# EAGLE library part DEBUG-CORTEXM10 (library Cynara-Connectors)
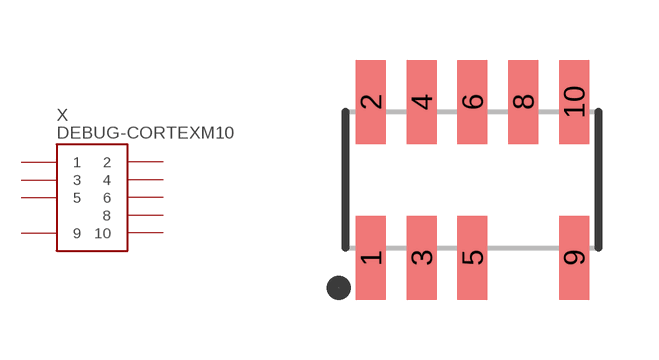
[diagram p0: symbol with the pads of DEBUG-CORTEXM10; footprint DEBUG-CORTEXM10]

Designator prefix X

## DEBUG-CORTEXM10 (MANUFACTURER: SAMTEC; MANUFACTURERPARTNO: 62101021021; VALUE: debug 10p)  [DEBUG-CORTEXM10]
1  1  pas
2  2  pas
3  3  pas
4  4  pas
5  5  pas
6  6  pas
8  8  pas
9  9  pas
10  10  pas

## Footprint DEBUG-CORTEXM10 (pad centres in mm)
WR-PHD 1.27mm Dual SMT Pin Header H=3.80 mm, 10 Pins
smd 0.75 x 2.1: 1 -1.905,-1.95; 2 -1.905,1.95; 3 -0.635,-1.95; 4 -0.635,1.95; 5 0.635,-1.95; 6 0.635,1.95; 8 1.905,1.95; 9 3.175,-1.95; 10 3.175,1.95